# Altium footprint library 40-WQFN - TEXAS.PcbLib: 1 footprints
Each footprint in its own frame and in the unit in brackets; x right, y up, seen from the top. Pads: shape width x height; smd on the part's side, far side on the other; paste and mask are expansions set on the pad; w line width, h text height; cw(c..) or ccw(c..) is an arc to the next point about the centre after c.
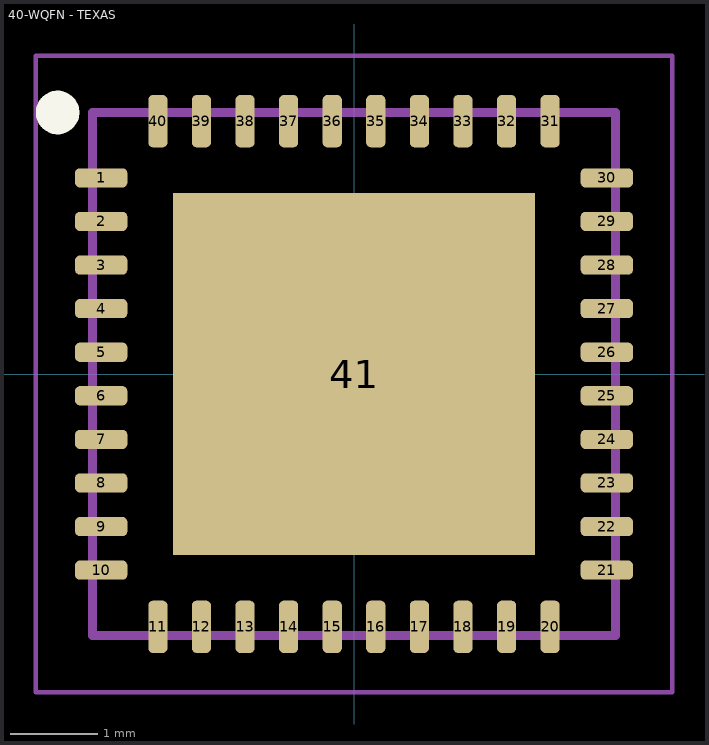
[diagram p0: the footprint, top view; thin cyan lines are the x and y axes]

## 40-WQFN - TEXAS [mm]
pads (41):
  rrect50% 0.6x0.22 smd: 1(-2.9,2.25) 2(-2.9,1.75) 3(-2.9,1.25) 4(-2.9,0.75) 5(-2.9,0.25) 6(-2.9,-0.25) 7(-2.9,-0.75) 8(-2.9,-1.25) 9(-2.9,-1.75) 10(-2.9,-2.25) 21(2.9,-2.25) 22(2.9,-1.75) 23(2.9,-1.25) 24(2.9,-0.75) 25(2.9,-0.25) 26(2.9,0.25) 27(2.9,0.75) 28(2.9,1.25) 29(2.9,1.75) 30(2.9,2.25)
  rrect50% 0.22x0.6 smd: 11(-2.25,-2.9) 12(-1.75,-2.9) 13(-1.25,-2.9) 14(-0.75,-2.9) 15(-0.25,-2.9) 16(0.25,-2.9) 17(0.75,-2.9) 18(1.25,-2.9) 19(1.75,-2.9) 20(2.25,-2.9) 31(2.25,2.9) 32(1.75,2.9) 33(1.25,2.9) 34(0.75,2.9) 35(0.25,2.9) 36(-0.25,2.9) 37(-0.75,2.9) 38(-1.25,2.9) 39(-1.75,2.9) 40(-2.25,2.9)
  rect 4.15x4.15 smd paste-2539.97: 41(0,0)
Top Overlay:
  circle w0.25: c-3.4,3 r0.125
Top Paste:
  rectangle: -0.625,-0.625 0.625,0.625
  rectangle: -0.625,-1.955 0.625,-0.705
  rectangle: -0.625,0.71 0.625,1.96
  rectangle: -1.96,-0.625 -0.71,0.625
  rectangle: -1.96,0.71 -0.71,1.96
  rectangle: -1.96,-1.955 -0.71,-0.705
  rectangle: 0.7,0.71 1.95,1.96
  rectangle: 0.7,-0.625 1.95,0.625
  rectangle: 0.7,-1.955 1.95,-0.705
Mechanical 15:
  lines w0.1: -3,-3 -3,3 3,3 3,-3 -3,-3
Mechanical 20:
  lines w0.05: -3.65,-3.65 -3.65,3.65 3.65,3.65 3.65,-3.65 -3.65,-3.65
Top Designator:
  text ".Designator" at -1.25,-0.083 h0.25
3D body "DRV8323SRTAR.stp": height 0.8, standoff 0, extent -3.05,-3.05 3.05,3.05